# Altium footprint library ch347-hs-usb-bridge.PcbLib: 15 footprints
Each footprint in its own frame and in the unit in brackets; x right, y up, seen from the top. Pads: shape width x height; smd on the part's side, far side on the other; paste and mask are expansions set on the pad; w line width, h text height; cw(c..) or ccw(c..) is an arc to the next point about the centre after c.
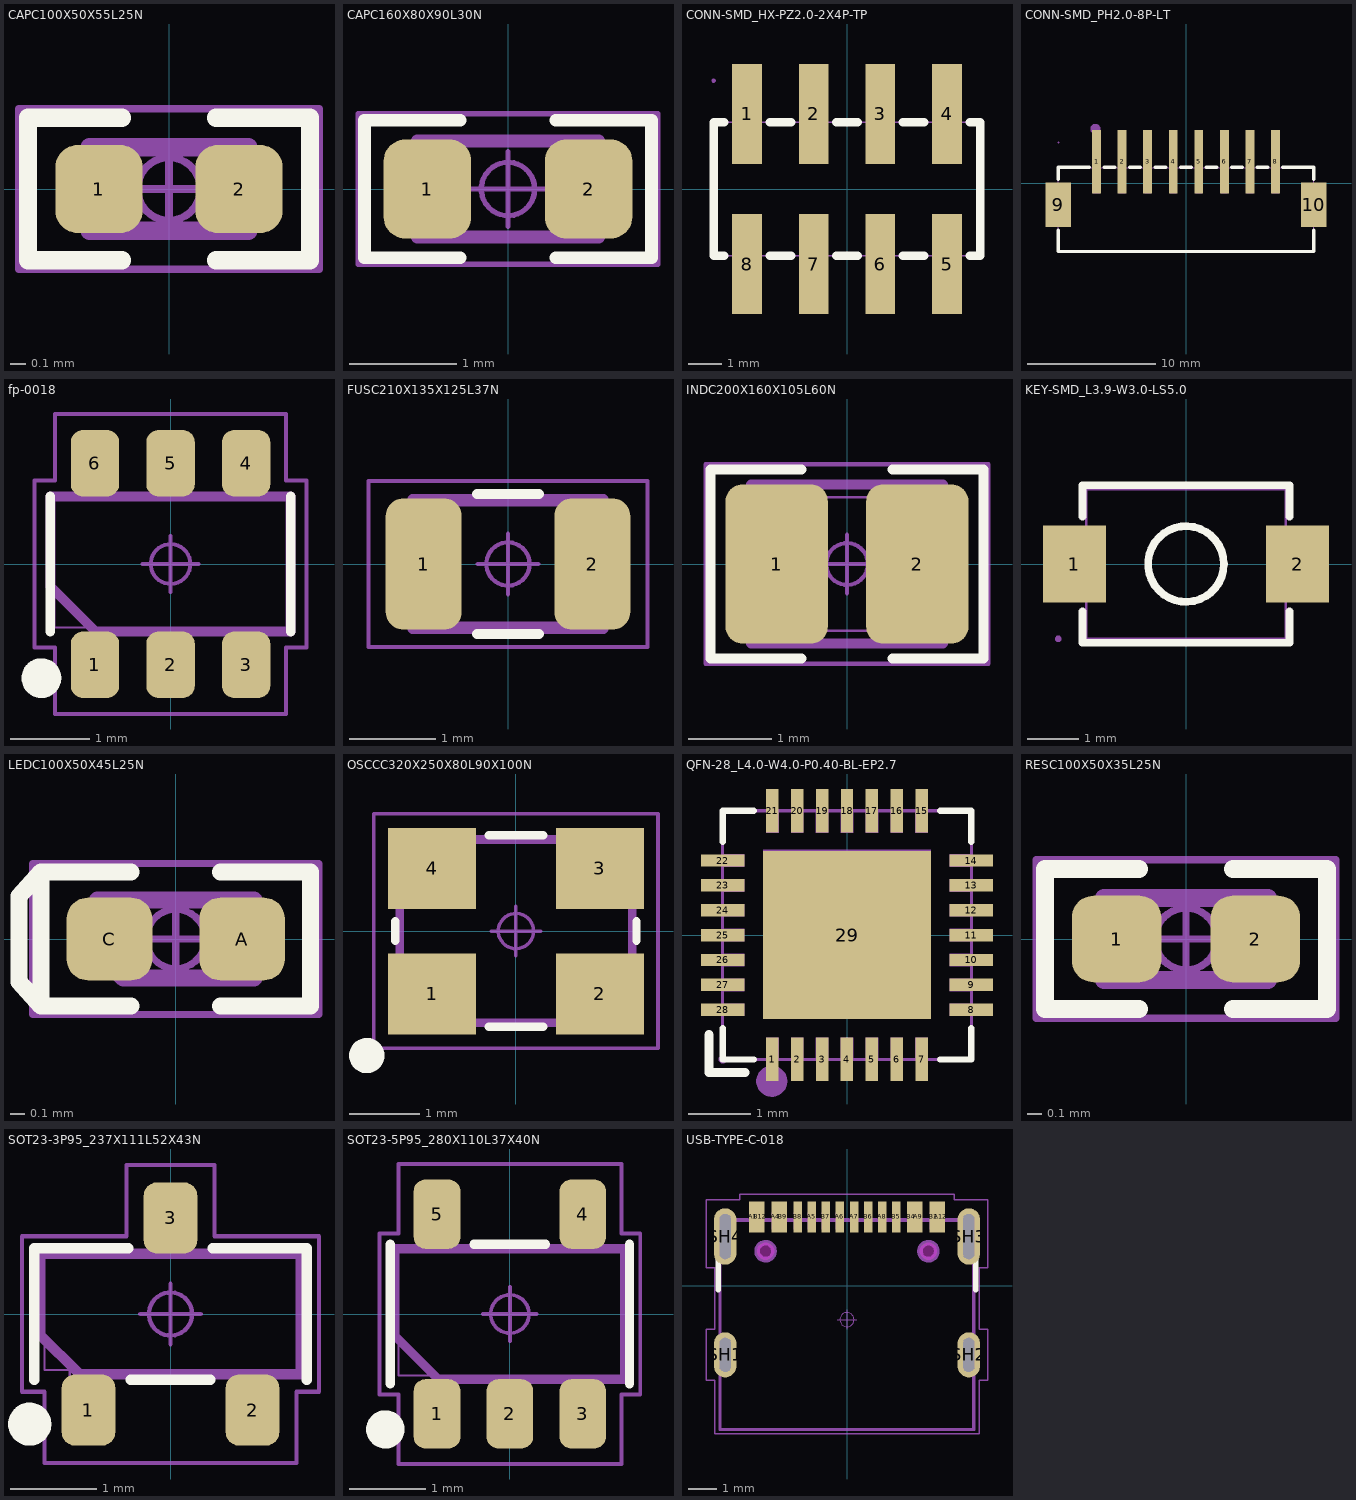
[diagram p0: the footprints below, top view; thin cyan lines are the x and y axes]

## CAPC100X50X55L25N [mm] "Capacitor, Chip; 1.00 mm L X 0.50 mm W X 0.55 mm H body"
height 0.55
pads (2):
  rrect50% 0.575x0.58 smd: 1(-0.462,0) 2(0.462,0)
Top Overlay:
  lines w0.12: -0.31,-0.47 -0.93,-0.47 -0.93,0.47 -0.31,0.47 ; 0.31,-0.47 0.93,-0.47 0.93,0.47 0.31,0.47
Top Component Outline:
  lines w0.025: -0.5,-0.25 0.5,-0.25 ; -0.5,-0.25 -0.5,0.25 ; -0.5,-0.25 -0.5,0.25 ; -0.5,-0.25 -0.25,-0.25 -0.25,0.25 -0.5,0.25 ; -0.5,0.25 0.5,0.25 ; 0.5,-0.25 0.5,0.25 ; 0.5,-0.25 0.25,-0.25 0.25,0.25 0.5,0.25 ; 0.5,-0.25 0.5,0.25
Top Courtyard:
  circle w0.05: c0,0 r0.208
  lines w0.05: -0.278,0 0.278,0 ; 0,-0.278 0,0.278 ; -0.99,-0.53 0.99,-0.53 0.99,0.53 -0.99,0.53 -0.99,-0.53
Top Assembly:
  lines w0.12: -0.525,-0.275 0.525,-0.275 0.525,0.275 -0.525,0.275 -0.525,-0.275
Top Designator:
  text ".Designator" at -2.973,-0.251 h1.2
3D body "CAPC100X50X55L25.STEP": height 0.55, standoff 0, extent -0.5,-0.25 0.5,0.25

## CAPC160X80X90L30N [mm] "Capacitor, Chip; 1.60 mm L X 0.80 mm W X 0.90 mm H body"
height 0.9
pads (2):
  rrect49% 0.82x0.929 smd: 1(-0.755,0) 2(0.755,0)
Top Overlay:
  lines w0.12: -0.448,-0.644 -1.345,-0.644 -1.345,0.644 -0.448,0.644 ; 0.448,-0.644 1.345,-0.644 1.345,0.644 0.448,0.644
Top Component Outline:
  lines w0.025: -0.8,-0.4 -0.5,-0.4 -0.5,0.4 -0.8,0.4 ; -0.8,-0.4 -0.8,0.4 ; -0.8,-0.4 -0.8,0.4 ; -0.8,-0.4 0.8,-0.4 ; -0.8,0.4 0.8,0.4 ; 0.8,-0.4 0.8,0.4 ; 0.8,-0.4 0.5,-0.4 0.5,0.4 0.8,0.4 ; 0.8,-0.4 0.8,0.4
Top Courtyard:
  circle w0.05: c0,0 r0.25
  lines w0.05: -0.35,0 0.35,0 ; 0,-0.35 0,0.35 ; -1.405,-0.704 -1.405,0.704 1.405,0.704 1.405,-0.704 -1.405,-0.704
Top Assembly:
  lines w0.12: -0.85,-0.45 -0.85,0.45 0.85,0.45 0.85,-0.45 -0.85,-0.45
Top Designator:
  text ".Designator" at -2.973,-0.251 h1.2
3D body "CAPC160X80X90L30.STEP": height 0.9, standoff 0, extent -0.8,-0.4 0.8,0.4

## CONN-SMD_HX-PZ2.0-2X4P-TP [mm]
pads (8):
  rect 0.89x3 smd: 1(-3,2.25) 2(-1,2.25) 3(1,2.25) 4(3,2.25) 5(3,-2.25) 6(1,-2.25) 7(-1,-2.25) 8(-3,-2.25)
Top Overlay:
  lines w0.254: -3.676,-2 -4,-2 -4,2 -3.676,2 ; -2.324,-2 -1.676,-2 ; -2.324,2 -1.676,2 ; -0.324,-2 0.324,-2 ; -0.324,2 0.324,2 ; 1.676,-2 2.324,-2 ; 1.676,2 2.324,2 ; 3.676,-2 3.921,-2 ; 3.676,2 4,2 4,-2
Mechanical 15:
  region: -3.94,3.25 -3.94,3.275 -3.975,3.31 -4.025,3.31 -4.06,3.275 -4.06,3.25 -4.06,3.225 -4.025,3.19 -3.975,3.19 -3.94,3.225 -3.94,3.25
  region: -3.25,-1.25 -2.75,-1.25 -2.75,-3.25 -3.25,-3.25
  region: -1.25,-1.25 -0.75,-1.25 -0.75,-3.25 -1.25,-3.25
  region: 0.75,-1.25 1.25,-1.25 1.25,-3.25 0.75,-3.25
  region: 0.75,3.25 1.25,3.25 1.25,1.25 0.75,1.25
  region: -1.25,3.25 -0.75,3.25 -0.75,1.25 -1.25,1.25
  region: -3.25,3.25 -2.75,3.25 -2.75,1.25 -3.25,1.25
  region: 2.75,3.25 3.25,3.25 3.25,1.25 2.75,1.25
  region: 2.75,-1.25 3.25,-1.25 3.25,-3.25 2.75,-3.25
  lines w0.051: -4,-2 -4,2 4,2 4,-2 -4,-2
3D body "Mnum-H1-CONN-SMD_HX-PZ2.0-2X4P-TP.step": height 6.3, standoff 0, extent -4,-3.25 4,3.25

## CONN-SMD_PH2.0-8P-LT [mm]
pads (10):
  rect 0.7x5 smd paste+0 mask+0.05: 1(-7,1.679) 2(-5,1.679) 3(-3,1.679) 4(-1,1.679) 5(1,1.679) 6(3,1.679) 7(5,1.679) 8(7,1.679)
  rect 2x3.5 smd paste+0 mask+0.05: 9(-10,-1.679) 10(10,-1.679)
Top Overlay:
  lines w0.254: -10,-3.66 -10,-5.355 10,-5.355 10,-3.66 ; -10,0.302 -10,1.245 -7.581,1.245 ; -6.419,1.245 -5.581,1.245 ; -4.419,1.245 -3.581,1.245 ; -2.419,1.245 -1.581,1.245 ; -0.419,1.245 0.419,1.245 ; 1.581,1.245 2.419,1.245 ; 3.581,1.245 4.419,1.245 ; 5.581,1.245 6.419,1.245 ; 7.581,1.245 10,1.245 10,0.302
Top 3D Body:
  circle w0.4: c-7.1,4.245 r0.2
Mechanical 15:
  region: -9.94,3.195 -9.941,3.22 -9.976,3.254 -10.024,3.254 -10.059,3.22 -10.06,3.195 -10.059,3.171 -10.024,3.137 -9.975,3.137 -9.941,3.171 -9.94,3.195
  region: 6.75,3.195 7.25,3.195 7.25,-0.805 6.75,-0.805
  region: 4.75,3.195 5.25,3.195 5.25,-0.805 4.75,-0.805
  region: 2.75,3.195 3.25,3.195 3.25,-0.805 2.75,-0.805
  region: 0.75,3.195 1.25,3.195 1.25,-0.805 0.75,-0.805
  region: -1.25,3.195 -0.75,3.195 -0.75,-0.805 -1.25,-0.805
  region: -3.25,3.195 -2.75,3.195 -2.75,-0.805 -3.25,-0.805
  region: -5.25,3.195 -4.75,3.195 -4.75,-0.805 -5.25,-0.805
  region: -7.25,3.195 -6.75,3.195 -6.75,-0.805 -7.25,-0.805
  region: -10,-0.405 -9.15,-0.405 -9.15,-2.405 -10,-2.405
  region: 9.15,-0.405 10,-0.405 10,-2.405 9.15,-2.405
  lines w0.051: -10,-5.305 -10,1.195 10,1.195 10,-5.305 -10,-5.305
3D body "wxVL-CN2-CONN-SMD_PH2.0-8P-LT.step": height 6.55, standoff 0, extent -10,-4.592 10,2.808

## fp-0018 [mm] "SOT23-6P95_280X125L45X40N, Small Outline Transistor, SOT-23 Type, 0.95 mm pitch; 6 pin, 2.92 mm L X 1.60 mm W X 1.25 mm H body"
height 1.25
pads (6):
  rrect50% 0.609x0.835 smd: 1(-0.95,-1.268) 2(0,-1.268) 3(0.95,-1.268) 4(0.95,1.268) 5(0,1.268) 6(-0.95,1.268)
Top Overlay:
  circle w0.25: c-1.624,-1.435 r0.125
  lines w0.12: -1.51,-0.85 -1.51,0.85 ; 1.51,-0.85 1.51,0.85
Top Component Outline:
  lines w0.025: -1.46,-0.8 1.46,-0.8 1.46,0.8 -1.46,0.8 -1.46,-0.8 ; -1.15,-1.4 -1.15,-0.95 -0.75,-0.95 -0.75,-1.4 -1.15,-1.4 ; -1.15,0.95 -1.15,1.4 -0.75,1.4 -0.75,0.95 -1.15,0.95 ; -0.2,-1.4 -0.2,-0.95 0.2,-0.95 0.2,-1.4 -0.2,-1.4 ; -0.2,0.95 -0.2,1.4 0.2,1.4 0.2,0.95 -0.2,0.95 ; 0.75,-1.4 0.75,-0.95 1.15,-0.95 1.15,-1.4 0.75,-1.4 ; 0.75,0.95 0.75,1.4 1.15,1.4 1.15,0.95 0.75,0.95
Top Courtyard:
  circle w0.05: c0,0 r0.25
  lines w0.05: -0.35,0 0.35,0 ; 0,-0.35 0,0.35 ; -1.71,-1.05 -1.454,-1.05 -1.454,-1.886 1.454,-1.886 1.454,-1.05 1.71,-1.05 1.71,1.05 1.454,1.05 1.454,1.886 -1.454,1.886 -1.454,1.05 -1.71,1.05 -1.71,-1.05
Top Assembly:
  lines w0.12: -1.51,-0.283 -1.51,0.85 1.51,0.85 1.51,-0.85 -0.943,-0.85 -1.51,-0.283
Top Designator:
  text ".Designator" at -2.476,-0.209 h1
3D body "3d-0018.step": height 1.25, standoff 0, extent -1.46,-1.4 1.46,1.4

## FUSC210X135X125L37N [mm] "Fuse, Chip; 2.10 mm L X 1.35 mm W X 1.25 mm H body"
height 1.25
pads (2):
  rrect46% 0.879x1.52 smd: 1(-0.975,0) 2(0.975,0)
Top Overlay:
  lines w0.12: -0.356,-0.81 0.356,-0.81 ; -0.356,0.81 0.356,0.81
Top Component Outline:
  lines w0.025: -1.05,-0.675 -0.674,-0.675 -0.674,0.675 -1.05,0.675 ; -1.05,-0.675 -1.05,0.675 ; -1.05,-0.675 -1.05,0.675 ; -1.05,-0.675 1.05,-0.675 ; -1.05,0.675 1.05,0.675 ; 1.05,-0.675 1.05,0.675 ; 1.05,-0.675 0.674,-0.675 0.674,0.675 1.05,0.675 ; 1.05,-0.675 1.05,0.675
Top Courtyard:
  circle w0.05: c0,0 r0.25
  lines w0.05: -0.35,0 0.35,0 ; 0,-0.35 0,0.35 ; -1.614,-0.96 -1.614,0.96 1.614,0.96 1.614,-0.96 -1.614,-0.96
Top Assembly:
  lines w0.12: -1.1,-0.75 -1.1,0.75 1.1,0.75 1.1,-0.75 -1.1,-0.75
Top Designator:
  text ".Designator" at -2.973,-0.251 h1.2
3D body "FUSC210X135X125L37.STEP": height 1.25, standoff 0, extent -1.05,-0.675 1.05,0.675

## INDC200X160X105L60N [mm] "Inductor, Chip; 2.00 mm L X 1.60 mm W X 1.05 mm H body"
height 1.05
pads (2):
  rrect33% 1.226x1.91 smd: 1(-0.842,0) 2(0.842,0)
Top Overlay:
  lines w0.12: -0.545,-1.135 -1.635,-1.135 -1.635,1.135 -0.545,1.135 ; 0.545,-1.135 1.635,-1.135 1.635,1.135 0.545,1.135
Top Component Outline:
  lines w0.025: -1,-0.8 1,-0.8 ; -1,-0.8 -1,0.8 ; -1,-0.8 -1,0.8 ; -1,-0.8 -0.4,-0.8 -0.4,0.8 -1,0.8 ; -1,0.8 1,0.8 ; 1,-0.8 1,0.8 ; 1,-0.8 0.4,-0.8 0.4,0.8 1,0.8 ; 1,-0.8 1,0.8
Top Courtyard:
  circle w0.05: c0,0 r0.25
  lines w0.05: -0.35,0 0.35,0 ; 0,-0.35 0,0.35 ; -1.695,-1.195 1.695,-1.195 1.695,1.195 -1.695,1.195 -1.695,-1.195
Top Assembly:
  lines w0.12: -1.15,-0.95 1.15,-0.95 1.15,0.95 -1.15,0.95 -1.15,-0.95
Top Designator:
  text ".Designator" at -2.973,-0.251 h1.2
3D body "INDC200X160X105L60.STEP": height 1.05, standoff 0, extent -1,-0.8 1,0.8

## KEY-SMD_L3.9-W3.0-LS5.0 [mm]
pads (2):
  rect 1.23x1.5 smd: 1(-2.185,0) 2(2.185,0)
Top Overlay:
  circle w0.152: c0,0 r0.741
  lines w0.152: -2.026,-0.93 -2.026,-1.541 2.026,-1.541 2.026,-0.93 ; -2.026,0.93 -2.026,1.541 2.026,1.541 2.026,0.93
Mechanical 15:
  region: -2.44,-1.465 -2.44,-1.44 -2.475,-1.405 -2.525,-1.405 -2.56,-1.44 -2.56,-1.465 -2.56,-1.49 -2.525,-1.525 -2.475,-1.525 -2.44,-1.49 -2.44,-1.465
  region: -2.5,0.65 -1.8,0.65 -1.8,-0.65 -2.5,-0.65
  region: 1.8,0.65 2.5,0.65 2.5,-0.65 1.8,-0.65
  lines w0.051: -1.95,-1.465 1.95,-1.465 1.95,1.465 -1.95,1.465 -1.95,-1.465
3D body "Ln0Z-SW1-KEY-SMD_L3.9-W3.0-LS5.0.step": height 2, standoff 0, extent -2.5,-1.475 2.5,1.475

## LEDC100X50X45L25N [mm] "LED, Chip; 1.00 mm L X 0.50 mm W X 0.45 mm H body"
height 0.45
pads (2):
  rrect50% 0.6x0.58 smd: A(0.465,0) C(-0.465,0)
Top Overlay:
  lines w0.12: -0.315,-0.47 -0.945,-0.47 ; -0.315,0.47 -0.945,0.47 ; 0.315,-0.47 0.945,-0.47 0.945,0.47 0.315,0.47 ; -0.945,-0.47 -0.945,0.47 ; -0.945,-0.47 -1.1,-0.3 -1.1,0.3 -0.945,0.47
Top Component Outline:
  lines w0.025: -0.5,-0.25 0.5,-0.25 ; -0.5,-0.25 -0.5,0.25 ; -0.5,-0.25 -0.5,0.25 ; -0.5,-0.25 -0.25,-0.25 -0.25,0.25 -0.5,0.25 ; -0.5,0.25 0.5,0.25 ; 0.5,-0.25 0.5,0.25 ; 0.5,-0.25 0.25,-0.25 0.25,0.25 0.5,0.25 ; 0.5,-0.25 0.5,0.25
Top Courtyard:
  circle w0.05: c0,0 r0.208
  lines w0.05: -0.278,0 0.278,0 ; 0,-0.278 0,0.278 ; -1.005,-0.53 -1.005,0.53 1.005,0.53 1.005,-0.53 -1.005,-0.53
Top Assembly:
  lines w0.12: -0.55,-0.092 -0.367,-0.275 0.55,-0.275 0.55,0.275 -0.55,0.275 -0.55,-0.092
Top Designator:
  text ".Designator" at -2.973,-0.251 h1.2
3D body "LEDC100X50X45L25.STEP": height 0.8, standoff 0, extent -0.5,-0.35 0.5,0.35

## OSCCC320X250X80L90X100N [mm] "Oscillator, Corner Concave; 3.20 mm L X 2.50 mm W X 0.80 mm H body"
height 0.8
pads (4):
  rect 1.249x1.149 smd: 1(-1.19,-0.89) 2(1.19,-0.89) 3(1.19,0.89) 4(-1.19,0.89)
Top Overlay:
  circle w0.25: c-2.115,-1.765 r0.125
  lines w0.12: -1.71,-0.136 -1.71,0.136 ; -0.386,-1.36 0.386,-1.36 ; -0.386,1.36 0.386,1.36 ; 1.71,-0.136 1.71,0.136
Top Component Outline:
  lines w0.025: -1.6,-1.25 1.6,-1.25 ; -1.6,-1.25 -1.6,1.25 ; -1.6,-1.25 -1.6,-0.35 -0.6,-0.35 -0.6,-1.25 -1.6,-1.25 ; -1.6,1.25 1.6,1.25 ; -1.6,1.25 -0.6,1.25 -0.6,0.35 -1.6,0.35 -1.6,1.25 ; 1.6,-1.25 1.6,1.25 ; 1.6,-1.25 0.6,-1.25 0.6,-0.35 1.6,-0.35 1.6,-1.25 ; 1.6,1.25 1.6,0.35 0.6,0.35 0.6,1.25 1.6,1.25
Top Courtyard:
  circle w0.05: c0,0 r0.25
  lines w0.05: -0.35,0 0.35,0 ; 0,-0.35 0,0.35 ; -2.015,-1.665 2.015,-1.665 2.015,1.665 -2.015,1.665 -2.015,-1.665
Top Assembly:
  lines w0.12: -1.65,-0.433 -1.65,1.3 1.65,1.3 1.65,-1.3 -0.783,-1.3 -1.65,-0.433
Top Designator:
  text ".Designator" at -2.973,-0.251 h1.2
3D body "OSCCC320X250X80L90X100-LQ.STEP": height 0.85, standoff 0, extent -1.6,-1.25 1.6,1.25

## QFN-28_L4.0-W4.0-P0.40-BL-EP2.7 [mm]
pads (29):
  rect 0.2x0.7 smd paste-100 mask+0.051: 1(-1.2,-2) 2(-0.8,-2) 3(-0.4,-2) 4(-0.001,-2) 5(0.4,-2) 6(0.8,-2) 7(1.2,-2) 15(1.2,2) 16(0.8,2) 17(0.4,2) 18(0,2) 19(-0.4,2) 20(-0.8,2) 21(-1.2,2)
  rect 0.7x0.2 smd paste-100 mask+0.051: 8(2,-1.2) 9(2,-0.8) 10(2,-0.4) 11(1.999,0) 12(2,0.4) 13(2,0.8) 14(2,1.2) 22(-2,1.2) 23(-2,0.8) 24(-2,0.4) 25(-2,0) 26(-2,-0.4) 27(-2,-0.8) 28(-2,-1.2)
  rect 2.7x2.7 smd paste-100 mask+0.051: 29(0,0)
Top Overlay:
  lines w0.102: -2,-1.5 -2,-2 -1.5,-2 ; -2,1.5 -2,2 -1.5,2 ; 1.5,-2 2,-2 2,-1.5 ; 1.5,2 2,2 2,1.5
  lines w0.15: -2.22,-1.6 -2.22,-2.21 -1.64,-2.21
Top Paste:
  region: 1.3,1.65 1.3,2.35 1.1,2.35 1.1,1.65
  region: 0.7,2.35 0.7,1.65 0.9,1.65 0.9,2.35
  region: -1.1,1.65 -1.1,2.35 -1.3,2.35 -1.3,1.65
  region: -0.7,1.65 -0.7,2.35 -0.9,2.35 -0.9,1.65
  region: -0.3,1.65 -0.3,2.35 -0.5,2.35 -0.5,1.65
  region: 0.3,2.35 0.3,1.65 0.5,1.65 0.5,2.35
  region: 0.1,1.65 0.1,2.35 -0.1,2.35 -0.1,1.65
  region: 1.08,-1.08 1.08,1.08 -1.08,1.08 -1.08,-1.08
  region: -2.35,1.3 -2.35,1.1 -1.65,1.1 -1.65,1.3
  region: 2.35,1.1 2.35,1.3 1.65,1.3 1.65,1.1
  region: -2.35,0.9 -2.35,0.7 -1.65,0.7 -1.65,0.9
  region: 2.35,0.7 2.35,0.9 1.65,0.9 1.65,0.7
  region: -2.35,0.5 -2.35,0.3 -1.65,0.3 -1.65,0.5
  region: 2.35,0.3 2.35,0.5 1.65,0.5 1.65,0.3
  region: -2.35,0.1 -2.35,-0.1 -1.65,-0.1 -1.65,0.1
  region: 2.349,-0.1 2.349,0.1 1.649,0.1 1.649,-0.1
  region: -2.35,-0.3 -2.35,-0.5 -1.65,-0.5 -1.65,-0.3
  region: 2.35,-0.5 2.35,-0.3 1.65,-0.3 1.65,-0.5
  region: -2.35,-0.7 -2.35,-0.9 -1.65,-0.9 -1.65,-0.7
  region: 2.35,-0.9 2.35,-0.7 1.65,-0.7 1.65,-0.9
  region: -2.35,-1.1 -2.35,-1.3 -1.65,-1.3 -1.65,-1.1
  region: 1.65,-1.1 1.65,-1.3 2.35,-1.3 2.35,-1.1
  region: -1.1,-2.35 -1.1,-1.65 -1.3,-1.65 -1.3,-2.35
  region: -0.101,-1.65 -0.101,-2.35 0.099,-2.35 0.099,-1.65
  region: -0.7,-2.35 -0.7,-1.65 -0.9,-1.65 -0.9,-2.35
  region: -0.3,-2.35 -0.3,-1.65 -0.5,-1.65 -0.5,-2.35
  region: 1.3,-2.35 1.3,-1.65 1.1,-1.65 1.1,-2.35
  region: 0.3,-1.65 0.3,-2.35 0.5,-2.35 0.5,-1.65
  region: 0.9,-2.35 0.9,-1.65 0.7,-1.65 0.7,-2.35
Top 3D Body:
  circle w0.25: c-1.21,-2.35 r0.125
Mechanical 15:
  drawing of 34 lines, arcs and shapes, not listed
3D body "IcXz-U1-QFN-28_L4.0-W4.0-P0.40-BL-EP2.7.step": height 0.75, standoff 0, extent -2.01,-2.01 2.01,2.01

## RESC100X50X35L25N [mm] "Resistor, Chip; 1.00 mm L X 0.50 mm W X 0.35 mm H body"
height 0.35
pads (2):
  rrect50% 0.6x0.58 smd: 1(-0.465,0) 2(0.465,0)
Top Overlay:
  lines w0.12: -0.315,-0.47 -0.945,-0.47 -0.945,0.47 -0.315,0.47 ; 0.315,-0.47 0.945,-0.47 0.945,0.47 0.315,0.47
Top Component Outline:
  lines w0.025: -0.5,-0.25 -0.25,-0.25 -0.25,0.25 -0.5,0.25 ; -0.5,-0.25 -0.5,0.25 ; -0.5,-0.25 -0.5,0.25 ; -0.5,-0.25 0.5,-0.25 ; -0.5,0.25 0.5,0.25 ; 0.5,-0.25 0.5,0.25 ; 0.5,-0.25 0.25,-0.25 0.25,0.25 0.5,0.25 ; 0.5,-0.25 0.5,0.25
Top Courtyard:
  circle w0.05: c0,0 r0.208
  lines w0.05: -0.278,0 0.278,0 ; 0,-0.278 0,0.278 ; -1.005,-0.53 -1.005,0.53 1.005,0.53 1.005,-0.53 -1.005,-0.53
Top Assembly:
  lines w0.12: -0.55,-0.275 -0.55,0.275 0.55,0.275 0.55,-0.275 -0.55,-0.275
Top Designator:
  text ".Designator" at -2.973,-0.251 h1.2
3D body "RESC100X50X35L25.STEP": height 0.35, standoff 0, extent -0.5,-0.25 0.5,0.25

## SOT23-3P95_237X111L52X43N [mm] "Small Outline Transistor, SOT-23 Type, 0.95 mm pitch; 3 pin, 2.92 mm L X 1.30 mm W X 1.11 mm H body"
height 1.11
pads (3):
  rrect50% 0.621x0.826 smd: 1(-0.95,-1.113) 2(0.95,-1.113) 3(0,1.113)
Top Overlay:
  circle w0.25: c-1.63,-1.276 r0.125
  lines w0.12: -1.58,-0.76 -1.58,0.76 -0.49,0.76 ; -0.46,-0.76 0.46,-0.76 ; 0.49,0.76 1.58,0.76 1.58,-0.76
Top Component Outline:
  lines w0.025: -1.46,-0.65 -1.46,0.65 1.46,0.65 1.46,-0.65 -1.46,-0.65 ; -1.168,-1.185 -0.732,-1.185 -0.732,-0.665 -1.168,-0.665 -1.168,-1.185 ; -0.218,0.665 0.218,0.665 0.218,1.185 -0.218,1.185 -0.218,0.665 ; 0.732,-1.185 1.168,-1.185 1.168,-0.665 0.732,-0.665 0.732,-1.185
Top Courtyard:
  circle w0.05: c0,0 r0.25
  lines w0.05: -0.35,0 0.35,0 ; 0,-0.35 0,0.35 ; -1.72,-0.9 -1.72,0.9 -0.51,0.9 -0.51,1.726 0.51,1.726 0.51,0.9 1.72,0.9 1.72,-0.9 1.46,-0.9 1.46,-1.726 -1.46,-1.726 -1.46,-0.9 -1.72,-0.9
Top Assembly:
  lines w0.12: -1.52,-0.233 -1.053,-0.7 1.52,-0.7 1.52,0.7 -1.52,0.7 -1.52,-0.233
Top Designator:
  text ".Designator" at -2.973,-0.251 h1.2
3D body "SOT23-3P95_237X111L52X43.STEP": height 1.11, standoff 0, extent -1.46,-1.185 1.46,1.185

## SOT23-5P95_280X110L37X40N [mm] "Small Outline Transistor, SOT-23 Type, 0.95 mm pitch; 5 pin, 2.90 mm L X 1.60 mm W X 1.10 mm H body"
height 1.1
pads (5):
  rrect50% 0.609x0.905 smd: 1(-0.95,-1.303) 2(0,-1.303) 3(0.95,-1.303) 4(0.95,1.303) 5(-0.95,1.303)
Top Overlay:
  circle w0.25: c-1.624,-1.505 r0.125
  lines w0.12: -1.56,-0.91 -1.56,0.91 ; -0.466,0.91 0.466,0.91 ; 1.56,-0.91 1.56,0.91
Top Component Outline:
  lines w0.025: -1.45,-0.8 1.45,-0.8 1.45,0.8 -1.45,0.8 -1.45,-0.8 ; -1.15,-1.4 -1.15,-1.024 -0.75,-1.024 -0.75,-1.4 -1.15,-1.4 ; -1.15,1.024 -1.15,1.4 -0.75,1.4 -0.75,1.024 -1.15,1.024 ; -0.2,-1.4 -0.2,-1.024 0.2,-1.024 0.2,-1.4 -0.2,-1.4 ; 0.75,-1.4 0.75,-1.024 1.15,-1.024 1.15,-1.4 0.75,-1.4 ; 0.75,1.024 0.75,1.4 1.15,1.4 1.15,1.024 0.75,1.024
Top Courtyard:
  circle w0.05: c0,0 r0.25
  lines w0.05: -0.35,0 0.35,0 ; 0,-0.35 0,0.35 ; -1.7,-1.05 -1.454,-1.05 -1.454,-1.956 1.454,-1.956 1.454,-1.05 1.7,-1.05 1.7,1.05 1.454,1.05 1.454,1.956 -1.454,1.956 -1.454,1.05 -1.7,1.05 -1.7,-1.05
Top Assembly:
  lines w0.12: -1.5,-0.283 -1.5,0.85 1.5,0.85 1.5,-0.85 -0.933,-0.85 -1.5,-0.283
Top Designator:
  text ".Designator" at -2.973,-0.251 h1.2
3D body "SOT23-5P95_280X110L37X40.STEP": height 1.1, standoff 0, extent -1.45,-1.4 1.45,1.4

## USB-TYPE-C-018 [mm]
height 3.16
pads (20):
  rect 0.3x1.1 smd mask+0.05: A1(-3.325,2.45) A4(-2.525,2.45) A5(-1.25,2.45) A6(-0.25,2.45) A7(0.25,2.45) A8(1.25,2.45) A9(2.525,2.45) A12(3.325,2.45) B1(3.075,2.45) B4(2.275,2.45) B5(1.75,2.45) B6(0.75,2.45) B7(-0.75,2.45) B8(-1.75,2.45) B9(-2.275,2.45) B12(-3.075,2.45)
  oval 0.8x1.6 hole 0.4 slot 1.2 at 90 deg: SH1(-4.325,-2.45) SH2(4.325,-2.45)
  oval 0.8x2 hole 0.4 slot 1.6 at 90 deg: SH3(4.325,1.75) SH4(-4.325,1.75)
Top Overlay:
  lines w0.2: -4.57,-0.139 -4.57,1.639 ; 4.57,-0.139 4.57,1.639
Keep-Out Layer:
  board cut-out: 2.89,0.93 2.83,0.93 2.72,0.976 2.636,1.06 2.59,1.17 2.59,1.23 2.59,1.29 2.636,1.4 2.72,1.484 2.83,1.53 2.89,1.53 2.95,1.53 3.06,1.484 3.144,1.4 3.19,1.29 3.19,1.23 3.19,1.17 3.144,1.06 3.06,0.976 2.95,0.93
  board cut-out: -2.89,0.93 -2.95,0.93 -3.06,0.976 -3.144,1.06 -3.19,1.17 -3.19,1.23 -3.19,1.29 -3.144,1.4 -3.06,1.484 -2.95,1.53 -2.89,1.53 -2.83,1.53 -2.72,1.484 -2.636,1.4 -2.59,1.29 -2.59,1.23 -2.59,1.17 -2.636,1.06 -2.72,0.976 -2.83,0.93
Mechanical 1:
  circle w0.2: c2.89,1.23 r0.3
  circle w0.2: c-2.89,1.23 r0.3
Top Component Outline:
  circle w0.025: c-2.89,1.23 r0.25
  circle w0.025: c2.89,1.23 r0.25
  lines w0.025: -4.47,2.3 4.47,2.3 ; -4.47,2.3 -4.47,-5.05 4.47,-5.05 4.47,2.3 ; -4.47,2.3 -4.47,1.2 -4.17,1.2 -4.17,2.3 -4.47,2.3 ; -3.2,2 -3.2,2.6 ; -3.2,2 -2.95,2 -2.95,2.6 -3.2,2.6 ; -3.2,2 -3.2,2.6 ; -3.2,2 -3.45,2 -3.45,2.6 -3.2,2.6 ; -2.4,2 -2.4,2.6 ; -2.4,2 -2.65,2 -2.65,2.6 -2.4,2.6 ; -2.4,2 -2.4,2.6 ; -2.4,2 -2.15,2 -2.15,2.6 -2.4,2.6 ; 2.4,2 2.4,2.6 ; 2.4,2 2.15,2 2.15,2.6 2.4,2.6 ; 2.4,2 2.4,2.6 ; 2.4,2 2.65,2 2.65,2.6 2.4,2.6 ; 3.2,2 3.2,2.6 ; 3.2,2 2.95,2 2.95,2.6 3.2,2.6 ; 3.2,2 3.2,2.6 ; 3.2,2 3.45,2 3.45,2.6 3.2,2.6 ; 4.47,2.3 4.47,1.2 4.17,1.2 4.17,2.3 4.47,2.3 ; -4.47,-2.908 -4.47,-2.007 -4.17,-2.007 -4.17,-2.908 -4.47,-2.908 ; -1.875,2 -1.875,2.6 -1.625,2.6 -1.625,2 -1.875,2 ; -1.375,2 -1.375,2.6 -1.125,2.6 -1.125,2 -1.375,2 ; -0.875,2 -0.875,2.6 -0.625,2.6 -0.625,2 -0.875,2 ; -0.375,2 -0.375,2.6 -0.125,2.6 -0.125,2 -0.375,2 ; 0.125,2 0.125,2.6 0.375,2.6 0.375,2 0.125,2 ; 0.625,2 0.625,2.6 0.875,2.6 0.875,2 0.625,2 ; 1.125,2 1.125,2.6 1.375,2.6 1.375,2 1.125,2 ; 1.625,2 1.625,2.6 1.875,2.6 1.875,2 1.625,2 ; 4.17,-2.908 4.17,-2.007 4.47,-2.007 4.47,-2.908 4.17,-2.908
Top Courtyard:
  circle w0.025: c0,-1.2 r0.25
  lines w0.025: -0.35,-1.2 0.35,-1.2 ; 0,-1.55 0,-0.85
  lines w0.05: -5,-3.35 -5,-1.55 -4.7,-1.55 -4.7,0.65 -5,0.65 -5,3.05 -3.8,3.05 -3.8,3.25 0,3.25 3.8,3.25 3.8,3.05 5,3.05 5,0.65 4.7,0.65 4.7,-1.55 5,-1.55 5,-3.35 4.7,-3.35 4.7,-5.25 0,-5.25 -4.7,-5.25 -4.7,-3.35 -5,-3.35
Top Assembly:
  lines w0.1: -4.52,-5.1 -4.52,2.35 4.52,2.35 4.52,-5.1 -4.52,-5.1
Top Designator:
  text ".Designator" at -2.973,-1.451 h1.2
3D body "USB-C_SMD-TYPE-C-31-M-12.stp": height 3.25, standoff -0.85, extent -4.47,-5.05 4.47,2.85